# EAGLE library part LOGIC_2NOR_7402 (library 1-Active Components)
Quad 2-input NOR gate
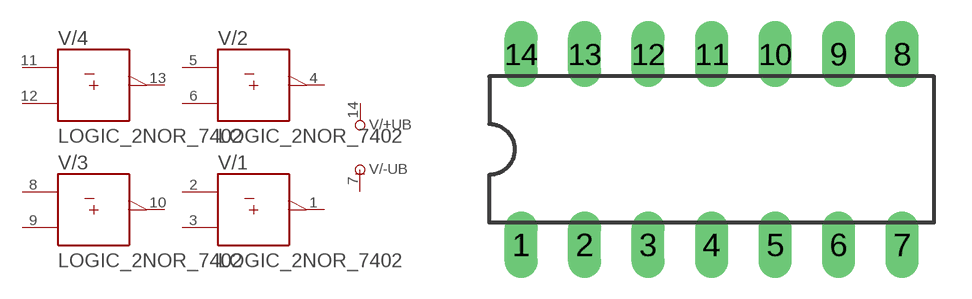
[diagram p4: symbol with the pads of DIL14; footprint DIL14]

Designator prefix V; gates /+UB=+UB /-UB=-UB /1=02 /2=02 /3=02 /4=02

## LOGIC_2NOR_7402N  [DIL14]
1  /1:Y  out
2  /1:A  in
3  /1:B  in
4  /2:Y  out
5  /2:A  in
6  /2:B  in
7  /-UB:-UB  pwr
8  /3:A  in
9  /3:B  in
10  /3:Y  out
11  /4:A  in
12  /4:B  in
13  /4:Y  out
14  /+UB:+UB  pwr

## Footprint DIL14 (pad centres in mm)
Dual In Line Package
drill 0.813 long: 1 -7.62,-3.81; 2 -5.08,-3.81; 3 -2.54,-3.81; 4 0,-3.81; 5 2.54,-3.81; 6 5.08,-3.81; 7 7.62,-3.81; 8 7.62,3.81; 9 5.08,3.81; 10 2.54,3.81; 11 0,3.81; 12 -2.54,3.81; 13 -5.08,3.81; 14 -7.62,3.81